# EAGLE library part LTC1821 (library linear-technology)
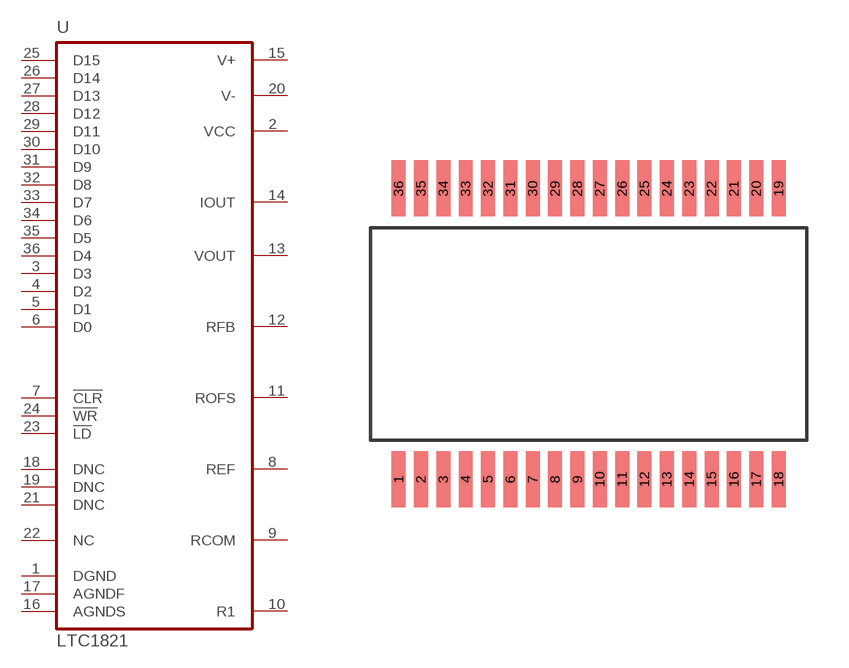
[diagram p29: symbol with the pads of SSOP-36W; footprint SSOP-36W]

Designator prefix -

## LTC1821 (P1I: o)  [SSOP-36W]
1  DGND  pwr
2  VCC
3  D3  in
4  D2  in
5  D1  in
6  D0  in
7  !CLR!  in
8  REF  in
9  RCOM  out
10  R1  in
11  ROFS  in
12  RFB  out
13  VOUT  out
14  IOUT  out
15  V+
16  AGNDS  pwr
17  AGNDF  pwr
18  DNC  nc
19  DNC  nc
20  V-
21  DNC  nc
22  NC  nc
23  !LD!  in
24  !WR!  in
25  D15  in
26  D14  in
27  D13  in
28  D12  in
29  D11  in
30  D10  in
31  D9  in
32  D8  in
33  D7  in
34  D6  in
35  D5  in
36  D4  in

## Footprint SSOP-36W (pad centres in mm)
smd 0.5 x 2: 1 -6.8,-5.2; 2 -6,-5.2; 3 -5.2,-5.2; 4 -4.4,-5.2; 5 -3.6,-5.2; 6 -2.8,-5.2; 7 -2,-5.2; 8 -1.2,-5.2; 9 -0.4,-5.2; 10 0.4,-5.2; 11 1.2,-5.2; 12 2,-5.2; 13 2.8,-5.2; 14 3.6,-5.2; 15 4.4,-5.2; 16 5.2,-5.2; 17 6,-5.2; 18 6.8,-5.2; 19 6.8,5.2; 20 6,5.2; 21 5.2,5.2; 22 4.4,5.2; 23 3.6,5.2; 24 2.8,5.2; 25 2,5.2; 26 1.2,5.2; 27 0.4,5.2; 28 -0.4,5.2; 29 -1.2,5.2; 30 -2,5.2; 31 -2.8,5.2; 32 -3.6,5.2; 33 -4.4,5.2; 34 -5.2,5.2; 35 -6,5.2; 36 -6.8,5.2